# Altium footprint library pcblib.PcbLib: 29 footprints (part 2 of 2)
Each footprint in its own frame and in the unit in brackets; x right, y up, seen from the top. Pads: shape width x height; smd on the part's side, far side on the other; paste and mask are expansions set on the pad; w line width, h text height; cw(c..) or ccw(c..) is an arc to the next point about the centre after c.
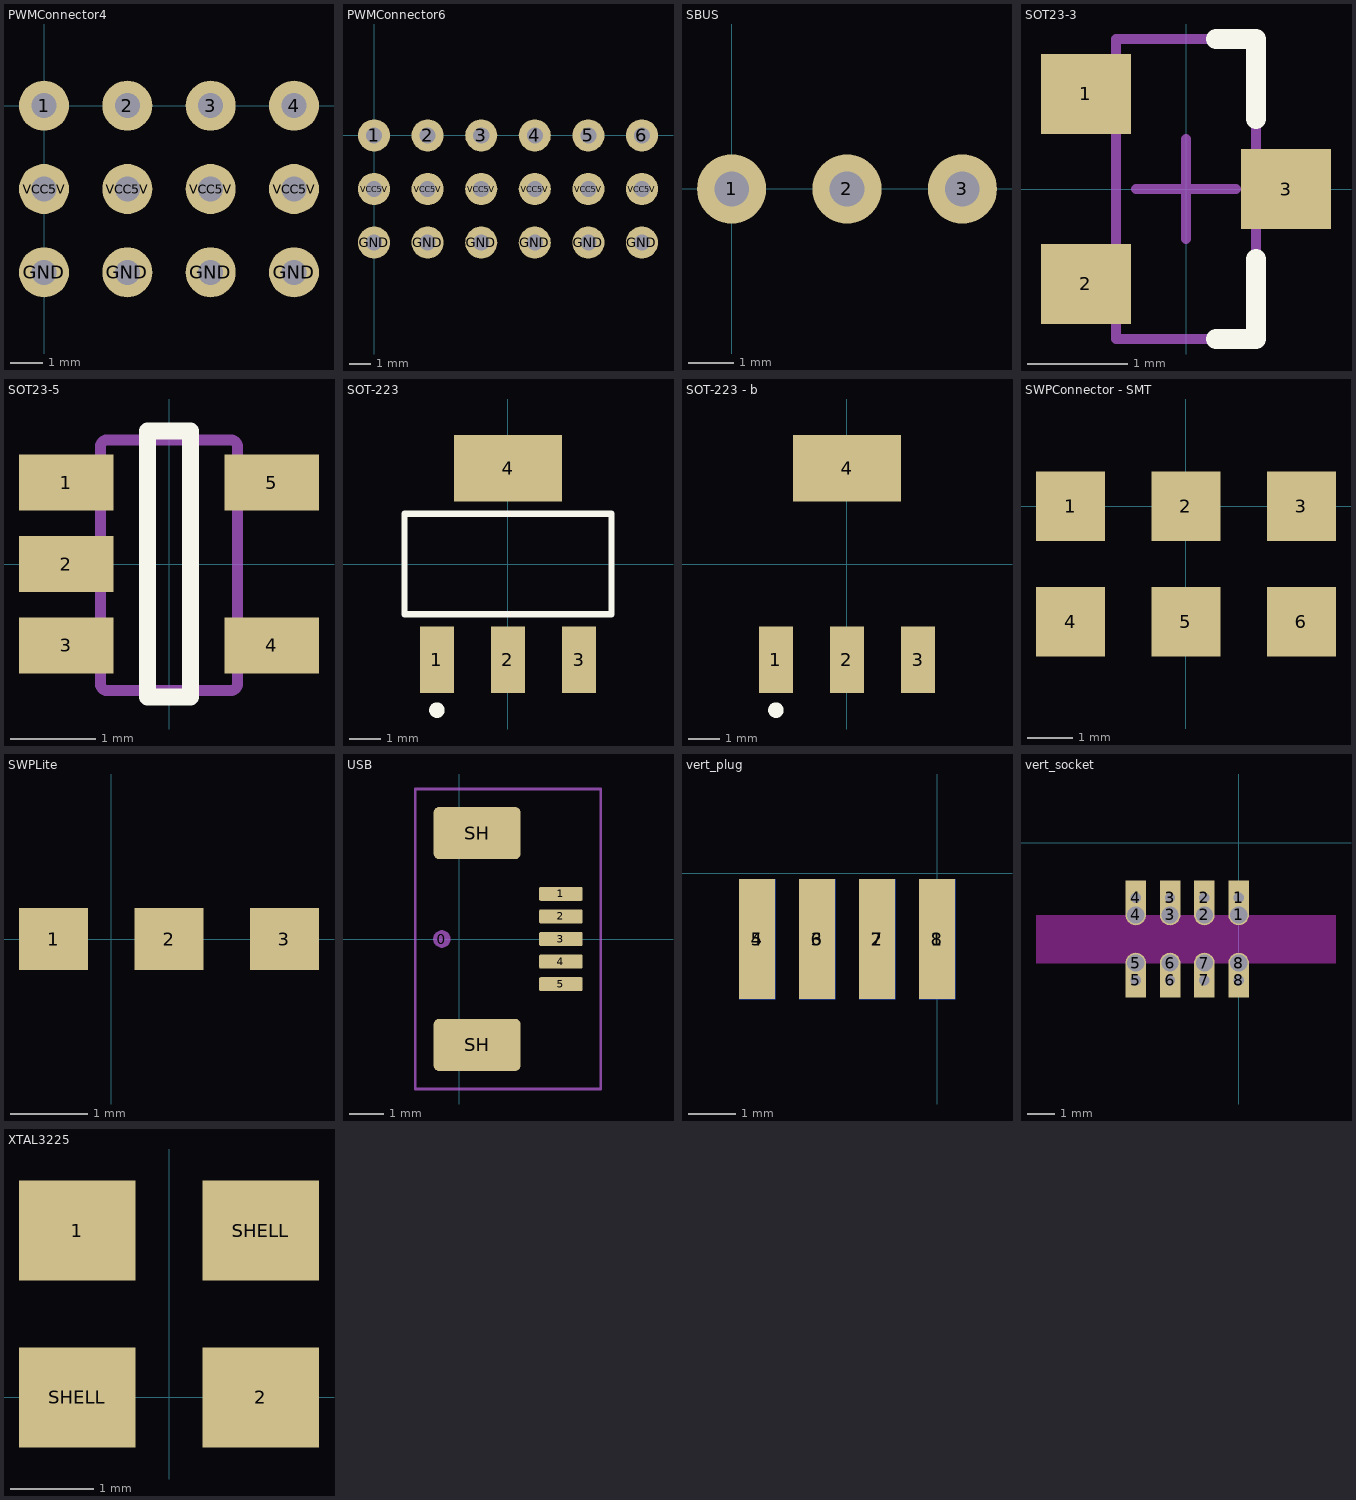
[diagram p1: the footprints below, top view; thin cyan lines are the x and y axes]

## PWMConnector4 [mil]
pads (12):
  round 60 hole 30: 1(0,0) 2(100,0) 3(200,0) 4(300,0) GND(0,-200) GND(100,-200) GND(200,-200) GND(300,-200) VCC5V(0,-100) VCC5V(100,-100) VCC5V(200,-100) VCC5V(300,-100)

## PWMConnector6 [mil]
pads (18):
  round 60 hole 30: 1(0,0) 2(100,0) 3(200,0) 4(300,0) 5(400,0) 6(500,0) GND(0,-200) GND(100,-200) GND(200,-200) GND(300,-200) GND(400,-200) GND(500,-200) VCC5V(0,-100) VCC5V(100,-100) VCC5V(200,-100) VCC5V(300,-100) VCC5V(400,-100) VCC5V(500,-100)

## SBUS [mil]
pads (3):
  round 60 hole 30: 1(0,0) 2(100,0) 3(200,0)

## SOT23-3 [mm] "SOT23, 3-Leads, Body 2.9x1.3mm, Pitch 0.95mm, Lead Span 2.5mm, IPC Low Density"
height 1.1
pads (3):
  rect 0.9x0.8 smd: 1(-1,0.95) 2(-1,-0.95) 3(1,0)
Top Overlay:
  lines w0.2: 0.3,-1.5 0.7,-1.5 0.7,-0.7 ; 0.3,1.5 0.7,1.5 0.7,0.7
Mechanical 13:
  lines w0.1: -0.7,-1.5 -0.7,1.5 0.7,1.5 0.7,-1.5 -0.7,-1.5
Mechanical 15:
  lines w0.1: -0.5,0 0.5,0 ; 0,-0.5 0,0.5
3D body: height 1.1, standoff 0, extent -0.7,-1.5 0.7,1.5

## SOT23-5 [mm]
pads (5):
  rect 1.1x0.65 smd paste-0.102 mask+0.051: 1(-1.2,0.95) 2(-1.2,0) 3(-1.2,-0.95) 4(1.2,-0.95) 5(1.2,0.95)
Top Overlay:
  lines w0.2: -0.25,-1.55 -0.25,1.55 0.25,1.55 0.25,-1.55 -0.25,-1.55
Mechanical 1:
  lines w0.127: -0.801,1.371 cw(c-0.725,1.37) -0.725,1.446 ; -0.801,1.37 -0.801,1.371 ; -0.801,1.37 -0.801,-1.399 -0.801,-1.4 ccw(c-0.725,-1.399) -0.725,-1.475 ; -0.725,-1.475 0.723,-1.475 0.724,-1.475 ccw(c0.723,-1.399) 0.799,-1.4 0.799,-1.399 0.799,1.37 ; -0.725,-1.475 -0.725,-1.475 ; -0.725,1.446 -0.725,1.446 ; -0.725,1.446 0.723,1.446 0.724,1.446 cw(c0.723,1.37) 0.799,1.371 ; 0.799,1.37 0.799,1.371 ; -1.423,-1.167 -1.423,-0.767 -1.199,-0.767 -1.105,-0.767 -1.088,-0.767 -0.835,-0.767 -0.801,-0.767 -0.801,-1.167 -0.835,-1.167 -1.088,-1.167 -1.105,-1.167 -1.199,-1.167 -1.423,-1.167 ; -1.423,-0.215 -1.423,0.186 -1.199,0.186 -1.105,0.186 -1.088,0.186 -0.835,0.186 -0.801,0.186 -0.801,-0.215 -0.835,-0.215 -1.088,-0.215 -1.105,-0.215 -1.199,-0.215 -1.423,-0.215 ; -1.423,0.738 -1.423,1.138 -1.199,1.138 -1.105,1.138 -1.088,1.138 -0.835,1.138 -0.801,1.138 -0.801,0.738 -0.835,0.738 -1.088,0.738 -1.105,0.738 -1.199,0.738 -1.423,0.738 ; 0.799,-1.167 0.834,-1.167 1.087,-1.167 1.103,-1.167 1.198,-1.167 1.422,-1.167 1.422,-0.767 1.198,-0.767 1.103,-0.767 1.087,-0.767 0.834,-0.767 0.799,-0.767 0.799,-1.167 ; 0.799,0.738 0.834,0.738 1.087,0.738 1.103,0.738 1.198,0.738 1.422,0.738 1.422,1.138 1.198,1.138 1.103,1.138 1.087,1.138 0.834,1.138 0.799,1.138 0.799,0.738

## SOT-223 [mm] "SOT-223/SC-73; 4 Leads; Body 6.7 x 7.3 mm, inc. leads (LxW max)"
height 1.8
pads (4):
  rect 1.1x2.15 smd: 1(-2.3,-3.1) 2(0,-3.1) 3(2.3,-3.1)
  rect 3.5x2.15 smd: 4(0,3.1)
Top Overlay:
  circle w0.25: c-2.3,-4.725 r0.125
  lines w0.2: -3.35,-1.625 -3.35,1.625 3.35,1.625 3.35,-1.625 -3.35,-1.625

## SOT-223 - b [mm] "SOT-223/SC-73; 4 Leads; Body 6.7 x 7.3 mm, inc. leads (LxW max)"
height 1.8
pads (4):
  rect 1.1x2.15 smd: 1(-2.3,-3.1) 2(0,-3.1) 3(2.3,-3.1)
  rect 3.5x2.15 smd: 4(0,3.1)
Top Overlay:
  circle w0.25: c-2.3,-4.725 r0.125

## SWPConnector - SMT [mil]
pads (6):
  rect 60x60 smd: 1(-100,0) 2(0,0) 3(100,0) 4(-100,-100) 5(0,-100) 6(100,-100)

## SWPLite [mm]
pads (3):
  rect 0.9x0.8 smd: 1(-0.75,0) 2(0.75,0) 3(2.25,0)

## USB [mm]
height 1.2
pads (8):
  round 0.508 on Mech15: 0(-0.508,0)
  rrect20% 1.25x0.4 smd: 1(2.919,1.3) 2(2.919,0.65) 3(2.919,0) 4(2.919,-0.65) 5(2.919,-1.3)
  rrect20% 2.5x1.5 smd: SH(0.508,-3.048) SH(0.508,3.048)
Top Solder:
  rectangle: 2.286,-1.27 3.556,1.27
Mechanical 15:
  lines w0.076: -1.27,-4.318 4.064,-4.318 4.064,4.318 -1.27,4.318 -1.27,-4.318

## vert_plug [mil]
pads (8):
  rect 30x100 smd: 1(0,-55) 2(-50,-55) 3(-100,-55) 4(-150,-55)
  rect 30x100 smd far side: 5(-150,-55) 6(-100,-55) 7(-50,-55) 8(0,-55)

## vert_socket [mil]
pads (16):
  round 30 hole 25: 1(0,-105) 2(-50,-105) 3(-100,-105) 4(-150,-105) 5(-150,-175) 6(-100,-175) 7(-50,-175) 8(0,-175)
  rect 30x50 hole 15: 1(0,-80) 2(-50,-80) 3(-100,-80) 4(-150,-80) 5(-150,-200) 6(-100,-200) 7(-50,-200) 8(0,-200)
Keep-Out Layer:
  rectangle: -295.28,-175.87 141.73,-105

## XTAL3225 [mm]
pads (4):
  rect 1.4x1.2 smd: 1(-1.1,2) 2(1.1,0) SHELL(-1.1,0) SHELL(1.1,2)